# Altium footprint library Jump_254.PcbLib: 184 footprints (part 2 of 12)
Each footprint in its own frame and in the unit in brackets; x right, y up, seen from the top. Pads: shape width x height; smd on the part's side, far side on the other; paste and mask are expansions set on the pad; w line width, h text height; cw(c..) or ccw(c..) is an arc to the next point about the centre after c.
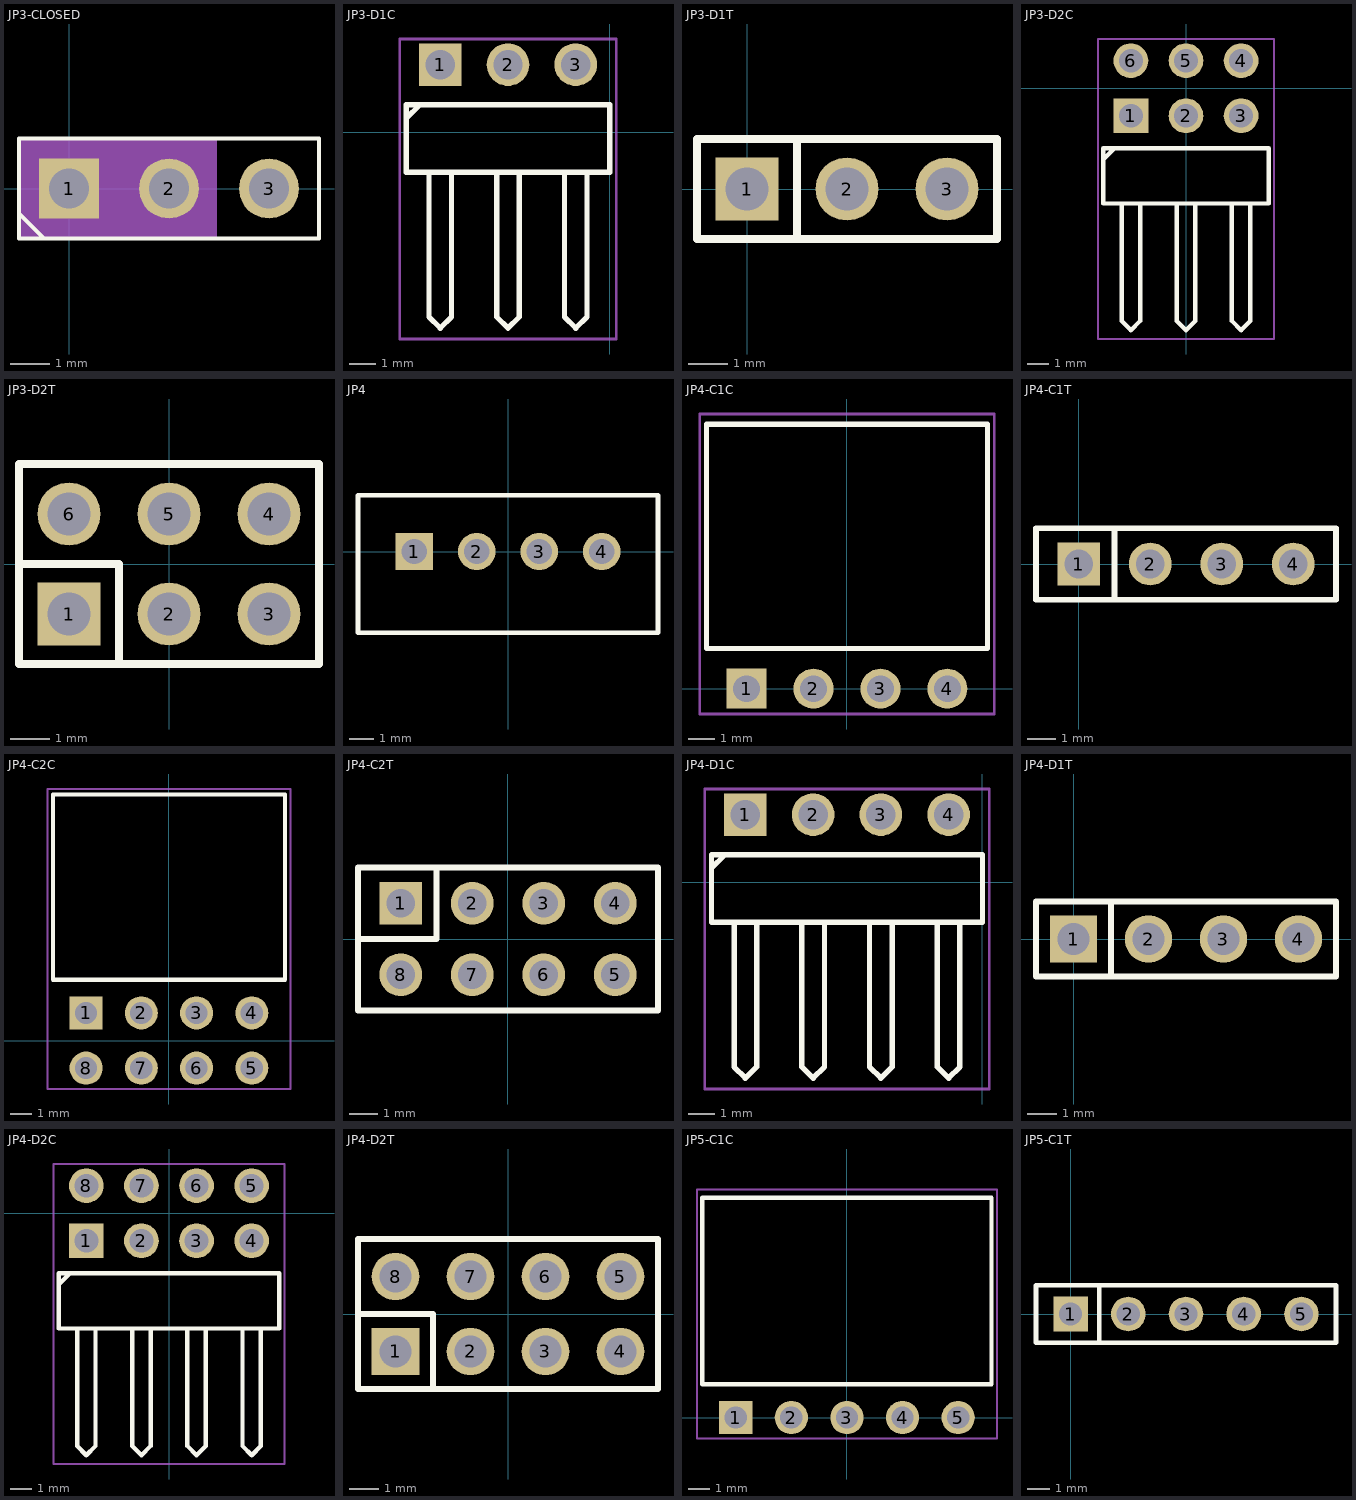
[diagram p1: the footprints below, top view; thin cyan lines are the x and y axes]

## JP3-CLOSED [mil]
pads (3):
  rect 60x60 hole 40: 1(0,0)
  round 60 hole 40: 2(100,0) 3(200,0)
Top Overlay:
  lines w4: -50,-25 -50,-50 -25,-50 ; -50,-25 -25,-50 ; -50,-25 -50,50 250,50 250,-50 -25,-50
Mechanical 3:
  rectangle: -49.5,-51 148,49.5
3D body: height 300, standoff -120, extent -15,-15.25 15,14.75
3D body: height 300, standoff -120, extent 85,-15.25 115,14.75
3D body: height 300, standoff -120, extent 185,-15 215,15
3D body: height 100, standoff 0, extent -49.93,-50 250,50
3D body: height 220, standoff 100, extent -52,-48 148,48
3D body: height 250, standoff 220, extent -44,-40 139.5,41
3D body: height 280, standoff 250, extent -52,-48 148,48

## JP3-D1C [mm] "3 pins, 1 row, right angled, gold plating"
height 2.54
pads (3):
  rect 1.6x1.6 hole 1.1: 1(-6.35,2.54)
  round 1.6 hole 1.1: 2(-3.81,2.54) 3(-1.27,2.54)
Top Overlay:
  lines w0.2: -7.578,0.574 -7.154,0.998 ; -6.773,-1.525 -6.773,-6.919 -6.35,-7.342 -5.927,-6.919 -5.927,-1.5 ; -4.233,-1.525 -4.233,-6.919 -3.81,-7.342 -3.387,-6.919 -3.387,-1.525 ; -1.693,-1.525 -1.693,-6.919 -1.27,-7.342 -0.847,-6.919 -0.847,-1.5 ; -7.62,-1.5 -7.62,1.04 0,1.04 0,-1.5 -7.62,-1.5
Mechanical 15:
  lines w0.1: -7.87,-7.75 0.25,-7.75 0.25,3.5 -7.87,3.5 -7.87,-7.75
3D body "61300311021.stp": height 2.55, standoff -2.99, extent -7.62,-7.524 0,2.836

## JP3-D1T [mm] "3 pins, 1 row, straight, gold plating"
height 8.54
pads (3):
  rect 1.6x1.6 hole 1.1: 1(0,0)
  round 1.6 hole 1.1: 2(2.54,0) 3(5.08,0)
Top Overlay:
  lines w0.2: 1.27,-1.27 1.27,1.27 ; -1.27,-1.27 -1.27,1.27 6.35,1.27 6.35,-1.27 -1.27,-1.27
3D body "61300311121.stp": height 8.54, standoff -3, extent -1.27,-1.27 6.35,1.27

## JP3-D2C [mm] "06 pins, dual row, right angled, gold plating"
height 5.08
pads (6):
  rect 1.6x1.6 hole 1.1: 1(-2.54,-1.27)
  round 1.6 hole 1.1: 2(0,-1.27) 3(2.54,-1.27) 4(2.54,1.27) 5(0,1.27) 6(-2.54,1.27)
Top Overlay:
  lines w0.2: -3.768,-3.236 -3.344,-2.812 ; -2.963,-5.335 -2.963,-10.729 -2.54,-11.152 -2.117,-10.729 -2.117,-5.31 ; -0.423,-5.335 -0.423,-10.729 0,-11.152 0.423,-10.729 0.423,-5.335 ; 2.117,-5.335 2.117,-10.729 2.54,-11.152 2.963,-10.729 2.963,-5.31 ; -3.81,-5.31 -3.81,-2.77 3.81,-2.77 3.81,-5.31 -3.81,-5.31
Mechanical 15:
  lines w0.1: -4.06,-11.56 -4.06,2.27 4.06,2.27 4.06,-11.56 -4.06,-11.56
3D body "61300621021.stp": height 5.09, standoff -2.99, extent -3.81,-11.249 3.81,1.651

## JP3-D2T [mm] "6 pins, dual pin, straight, gold plating"
height 8.54
pads (6):
  rect 1.6x1.6 hole 1.1: 1(-2.54,-1.27)
  round 1.6 hole 1.1: 2(0,-1.27) 3(2.54,-1.27) 4(2.54,1.27) 5(0,1.27) 6(-2.54,1.27)
Top Overlay:
  lines w0.2: -3.81,0 -1.27,0 -1.27,-2.54 ; -3.81,-2.54 -3.81,2.54 3.81,2.54 3.81,-2.54 -3.81,-2.54
3D body "61300621121.stp": height 8.55, standoff -2.99, extent -3.81,-2.54 3.81,2.54

## JP4 [mm] "Header"
pads (4):
  rect 1.52x1.52 hole 1.02: 1(-3.81,0)
  round 1.52 hole 1.02: 2(-1.27,0) 3(1.27,0) 4(3.81,0)
Top Overlay:
  lines w0.2: -6.096,-3.302 6.096,-3.302 6.096,2.286 -6.096,2.286 -6.096,-3.302
3D body "User Library-jst-b4b-xh-a-1.STEP": height 7, standoff -3.4, extent -6.223,-3.383 6.177,2.367

## JP4-C1C [mm] "04p 1 row Right angle"
height 2.5
pads (4):
  rect 1.52x1.52 hole 1.02: 1(-3.81,0)
  round 1.52 hole 1.02: 2(-1.27,0) 3(1.27,0) 4(3.81,0)
Top Overlay:
  lines w0.2: -5.33,1.524 5.334,1.524 5.334,10.033 -5.33,10.033 -5.33,1.524
Mechanical 15:
  lines w0.1: -5.58,-0.96 5.584,-0.96 5.584,10.423 -5.58,10.423 -5.58,-0.96
3D body "613004143121.stp": height 2.51, standoff -3.08, extent -5.33,-0.254 5.33,10.046

## JP4-C1T [mm] "4 row, straight, gold plating"
height 8.5
pads (4):
  rect 1.52x1.52 hole 1.02: 1(0,0)
  round 1.52 hole 1.02: 2(2.54,0) 3(5.08,0) 4(7.62,0)
Top Overlay:
  lines w0.2: 1.27,-1.27 1.27,1.27 ; -1.52,-1.27 9.14,-1.27 9.14,1.27 -1.52,1.27 -1.52,-1.27
3D body "61300411821.stp": height 8.51, standoff -3.09, extent -1.52,-1.25 9.14,1.25

## JP4-C2C [mm] "08p 2 rows Right angle"
height 5.08
pads (8):
  rect 1.52x1.52 hole 1.02: 1(-3.81,1.27)
  round 1.52 hole 1.02: 2(-1.27,1.27) 3(1.27,1.27) 4(3.81,1.27) 5(3.81,-1.27) 6(1.27,-1.27) 7(-1.27,-1.27) 8(-3.81,-1.27)
Top Overlay:
  lines w0.2: -5.334,2.794 -5.334,11.316 5.334,11.316 5.334,2.794 -5.334,2.794
Mechanical 15:
  lines w0.1: -5.58,-2.23 5.584,-2.23 5.584,11.566 -5.58,11.566 -5.58,-2.23
3D body "613008243121.stp": height 5.09, standoff -4.46, extent -5.33,-1.524 5.33,11.316

## JP4-C2T [mm] "8 pins, dual row, straight, gold plating"
height 8.5
pads (8):
  rect 1.52x1.52 hole 1.02: 1(-3.81,1.27)
  round 1.52 hole 1.02: 2(-1.27,1.27) 3(1.27,1.27) 4(3.81,1.27) 5(3.81,-1.27) 6(1.27,-1.27) 7(-1.27,-1.27) 8(-3.81,-1.27)
Top Overlay:
  lines w0.2: -5.33,0 -2.54,0 -2.54,2.54 ; -5.33,-2.54 -5.33,2.54 5.33,2.54 5.33,-2.54 -5.33,-2.54
3D body "61300821821.stp": height 8.51, standoff -3.09, extent -5.33,-2.54 5.33,2.54

## JP4-D1C [mm] "4 pins, 1 row, right angled, gold plating"
height 2.54
pads (4):
  rect 1.6x1.6 hole 1.1: 1(-8.89,2.54)
  round 1.6 hole 1.1: 2(-6.35,2.54) 3(-3.81,2.54) 4(-1.27,2.54)
Top Overlay:
  lines w0.2: -10.118,0.574 -9.694,0.998 ; -9.313,-1.525 -9.313,-6.919 -8.89,-7.342 -8.467,-6.919 -8.467,-1.5 ; -6.773,-1.525 -6.773,-6.919 -6.35,-7.342 -5.927,-6.919 -5.927,-1.525 ; -4.233,-1.525 -4.233,-6.919 -3.81,-7.342 -3.387,-6.919 -3.387,-1.5 ; -1.693,-1.525 -1.693,-6.919 -1.27,-7.342 -0.847,-6.919 -0.847,-1.525 ; -10.16,-1.5 0,-1.5 0,1.04 -10.16,1.04 -10.16,-1.5
Mechanical 15:
  lines w0.1: -10.41,-7.75 -10.41,3.5 0.25,3.5 0.25,-7.75 -10.41,-7.75
3D body "61300411021.stp": height 2.54, standoff -3, extent -10.16,-7.566 0,2.794

## JP4-D1T [mm] "4 pins, 1 row, straight, gold plating"
height 8.54
pads (4):
  rect 1.6x1.6 hole 1.1: 1(0,0)
  round 1.6 hole 1.1: 2(2.54,0) 3(5.08,0) 4(7.62,0)
Top Overlay:
  lines w0.2: 1.27,-1.27 1.27,1.27 ; -1.27,-1.27 -1.27,1.27 8.89,1.27 8.89,-1.27 -1.27,-1.27
3D body "61300411121.stp": height 8.54, standoff -3, extent -1.27,-1.27 8.89,1.27

## JP4-D2C [mm] "08 pins, dual row, right angled, gold plating"
height 5.08
pads (8):
  rect 1.6x1.6 hole 1.1: 1(-3.81,-1.27)
  round 1.6 hole 1.1: 2(-1.27,-1.27) 3(1.27,-1.27) 4(3.81,-1.27) 5(3.81,1.27) 6(1.27,1.27) 7(-1.27,1.27) 8(-3.81,1.27)
Top Overlay:
  lines w0.2: -5.038,-3.236 -4.614,-2.812 ; -4.233,-5.335 -4.233,-10.729 -3.81,-11.152 -3.387,-10.729 -3.387,-5.31 ; -1.693,-5.335 -1.693,-10.729 -1.27,-11.152 -0.847,-10.729 -0.847,-5.335 ; 0.847,-5.335 0.847,-10.729 1.27,-11.152 1.693,-10.729 1.693,-5.31 ; 3.387,-5.335 3.387,-10.729 3.81,-11.152 4.233,-10.729 4.233,-5.335 ; -5.08,-5.31 -5.08,-2.77 5.08,-2.77 5.08,-5.31 -5.08,-5.31
Mechanical 15:
  lines w0.1: -5.33,-11.56 5.33,-11.56 5.33,2.27 -5.33,2.27 -5.33,-11.56
3D body "61300821021.stp": height 5.09, standoff -2.99, extent -5.08,-11.334 5.08,1.566

## JP4-D2T [mm] "8 pins, dual pin, straight, gold plating"
height 8.54
pads (8):
  rect 1.61x1.6 hole 1.1: 1(-3.81,-1.27)
  oval 1.61x1.6 hole 1.1: 2(-1.27,-1.27) 3(1.27,-1.27) 4(3.81,-1.27) 5(3.81,1.27) 6(1.27,1.27) 7(-1.27,1.27) 8(-3.81,1.27)
Top Overlay:
  lines w0.2: -5.08,0 -2.54,0 -2.54,-2.54 ; -5.08,-2.54 5.08,-2.54 5.08,2.54 -5.08,2.54 -5.08,-2.54
3D body "61300821121.stp": height 8.55, standoff -2.99, extent -5.08,-2.54 5.08,2.54

## JP5-C1C [mm] "05p 1 row Right angle"
height 2.5
pads (5):
  rect 1.52x1.52 hole 1.02: 1(-5.08,0)
  round 1.52 hole 1.02: 2(-2.54,0) 3(0,0) 4(2.54,0) 5(5.08,0)
Top Overlay:
  lines w0.2: -6.604,1.524 -6.604,10.046 6.604,10.046 6.604,1.524 -6.604,1.524
Mechanical 15:
  lines w0.1: -6.85,-0.96 -6.85,10.423 6.854,10.423 6.854,-0.96 -6.85,-0.96
3D body "613005143121.stp": height 2.51, standoff -3.08, extent -6.6,-0.254 6.6,10.046

## JP5-C1T [mm] "5 row, straight, gold plating"
height 8.5
pads (5):
  rect 1.52x1.52 hole 1.02: 1(0,0)
  round 1.52 hole 1.02: 2(2.54,0) 3(5.08,0) 4(7.62,0) 5(10.16,0)
Top Overlay:
  lines w0.2: 1.27,-1.27 1.27,1.27 ; -1.52,-1.27 -1.52,1.27 11.68,1.27 11.68,-1.27 -1.52,-1.27
3D body "61300511821.stp": height 8.51, standoff -3.09, extent -1.52,-1.25 11.68,1.25